# EAGLE library part TS3USB221 (library Strutz Electronic Industries)
Symbold and Decal for the TS3USB221 2 channel USB Switch
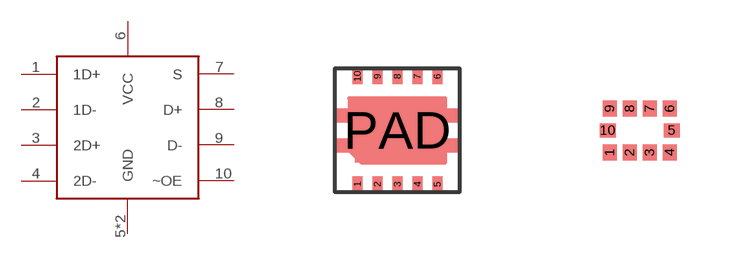
[diagram p35: symbol with the pads of 10-SON; footprints 10-SON, 10-QFN]

Designator prefix -

## TS3USB221SON  [10-SON]
1  1D+
2  1D-
3  2D+
4  2D-
5  GND
6  VCC
7  S
8  D+
9  D-
10  ~OE
PAD  GND

## TS3USB221QFN  [10-QFN]
1  1D+
2  1D-
3  2D+
4  2D-
5  GND
6  ~OE
7  D-
8  D+
9  S
10  VCC

## Footprint 10-SON (pad centres in mm)
smd 0.25 x 0.4: 1 -1,-1.35; 2 -0.5,-1.35; 3 0,-1.35; 4 0.5,-1.35; 5 1,-1.35; 6 1,1.35; 7 0.5,1.35; 8 0,1.35; 9 -0.5,1.35; 10 -1,1.35
smd 2.1 x 1.6: PAD 0,0

## Footprint 10-QFN (pad centres in mm)
smd 0.35 x 0.4: 1 -0.75,-0.55; 2 -0.25,-0.55; 3 0.25,-0.55; 4 0.75,-0.55; 6 0.75,0.55; 7 0.25,0.55; 8 -0.25,0.55; 9 -0.75,0.55
smd 0.4 x 0.35: 5 0.8,0; 10 -0.8,0